# Altium footprint library DX07VN24WA2C1568.PcbLib: 1 footprints
Each footprint in its own frame and in the unit in brackets; x right, y up, seen from the top. Pads: shape width x height; smd on the part's side, far side on the other; paste and mask are expansions set on the pad; w line width, h text height; cw(c..) or ccw(c..) is an arc to the next point about the centre after c.
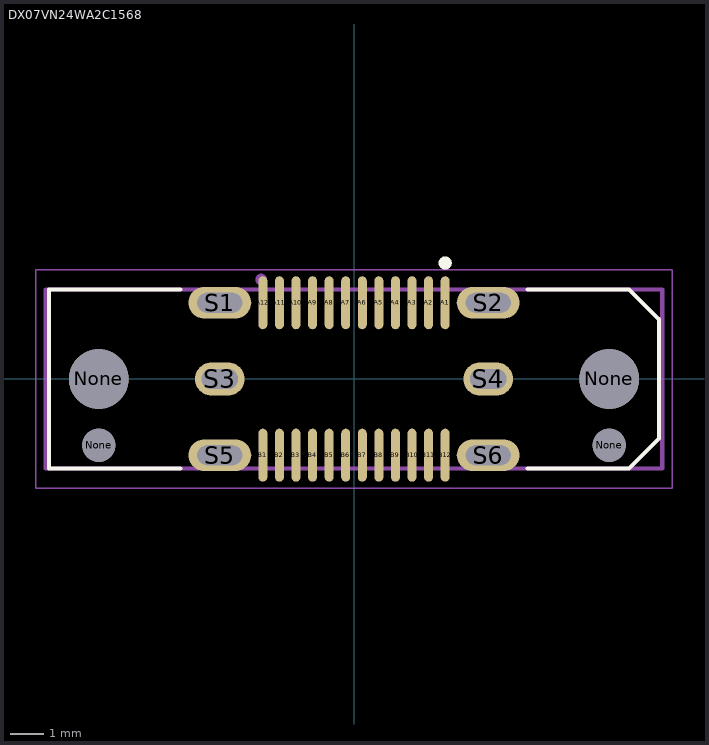
[diagram p0: the footprint, top view; thin cyan lines are the x and y axes]

## DX07VN24WA2C1568 [mm] "USB Connector Vertical Plug 2 row SMT"
pads (34):
  oval 0.27x1.6 smd: A1(2.75,2.3) A2(2.25,2.3) A3(1.75,2.3) A4(1.25,2.3) A5(0.75,2.3) A6(0.25,2.3) A7(-0.25,2.3) A8(-0.75,2.3) A9(-1.25,2.3) A10(-1.75,2.3) A11(-2.25,2.3) A12(-2.75,2.3) B1(-2.75,-2.3) B2(-2.25,-2.3) B3(-1.75,-2.3) B4(-1.25,-2.3) B5(-0.75,-2.3) B6(-0.25,-2.3) B7(0.25,-2.3) B8(0.75,-2.3) B9(1.25,-2.3) B10(1.75,-2.3) B11(2.25,-2.3) B12(2.75,-2.3)
  round 1 hole 1 unplated: None(-7.7,-2) None(7.7,-2)
  round 1.8 hole 1.8 unplated: None(-7.7,0) None(7.7,0)
  oval 1.9x0.95 hole 0.6 slot 1.35 at 0 deg: S1(-4.05,2.3) S2(4.05,2.3) S5(-4.05,-2.3) S6(4.05,-2.3)
  oval 1.5x1 hole 0.6 slot 1.1 at 0 deg: S3(-4.05,0) S4(4.05,0)
Top Overlay:
  circle w0.2: c2.75,3.5 r0.1
  lines w0.127: -5.245,-2.7 -9.2,-2.7 -9.2,2.7 -5.245,2.7 ; 5.245,-2.7 8.3,-2.7 9.2,-1.8 9.2,1.8 8.3,2.7 5.245,2.7
Top Assembly:
  circle w0.25: c-2.8,3 r0.05
  circle w0.25: c-2.8,3 r0.05
  lines w0.127: -9.3,-2.7 9.3,-2.7 9.3,2.7 -9.3,2.7 -9.3,-2.7
Top Courtyard:
  lines w0.05: -9.6,-3.3 -9.6,3.3 9.6,3.3 9.6,-3.3 -9.6,-3.3
3D body "K3D-DX07VN24WA2-V2_JAE_Proprietary v1.step": height 12.6, standoff -1.2, extent -9.2,-2.7 9.2,2.7